# EAGLE library part OMRON_G6K-2G-Y-DC5 (library captain-slow)
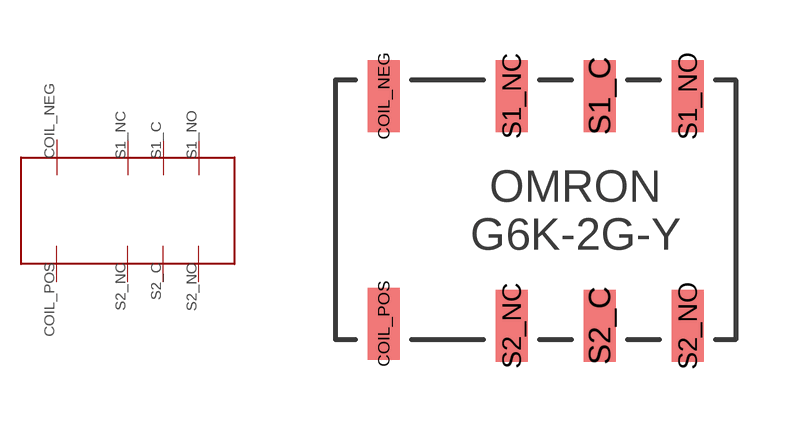
[diagram p3: symbol with the pads of OMRON_G6K-2G-Y-DC5; footprint OMRON_G6K-2G-Y-DC5]

Designator prefix -

## OMRON_G6K-2G-Y-DC5  [OMRON_G6K-2G-Y-DC5]
COIL_NEG  COIL_NEGATIVE
COIL_POS  COIL_POSITIVE
S1_C  CONTACT1_C
S1_NC  CONTACT1_NC
S1_NO  CONTACT1_NO
S2_C  CONTACT2_C
S2_NC  CONTACT2_NC
S2_NO  CONTACT2_NO

## Footprint OMRON_G6K-2G-Y-DC5 (pad centres in mm)
smd 0.8 x 1.8: COIL_NEG -3.8,2.85; COIL_POS -3.8,-2.85; S1_C 1.6,2.85; S1_NC -0.6,2.85; S1_NO 3.8,2.85; S2_C 1.6,-2.9; S2_NC -0.6,-2.9; S2_NO 3.8,-2.9